# EAGLE library part ARDUINOR3 (library firefly)
This is a new object for the new Arduino R3 - with extra pins that you may want to use (such as IOref, and duplicated A4/A5
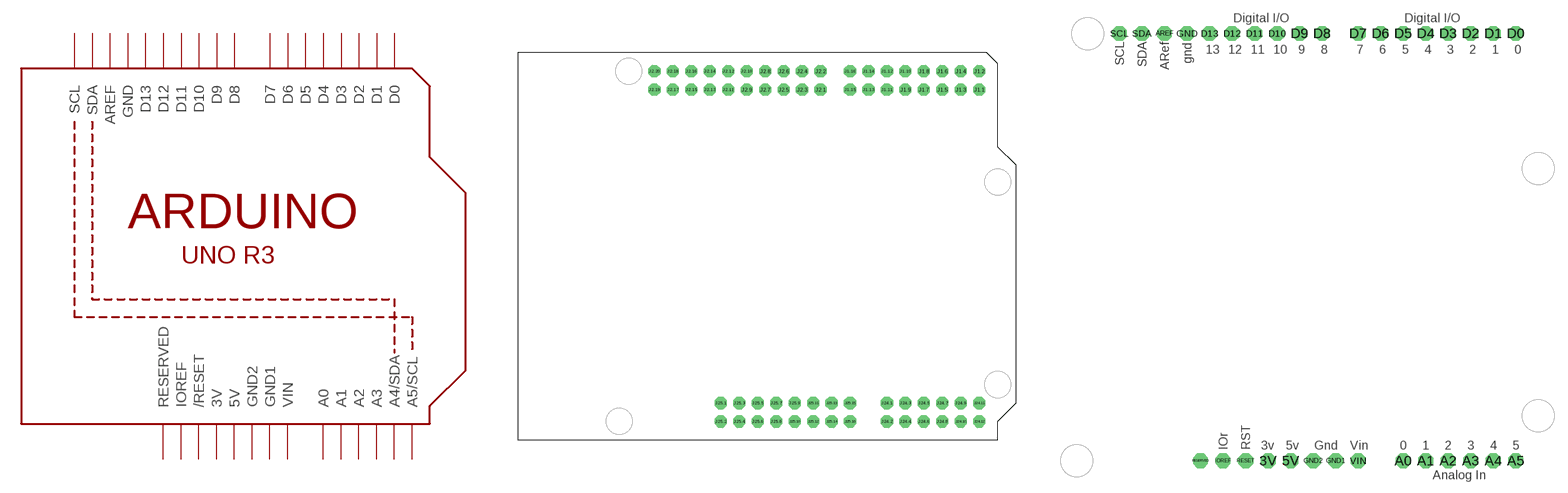
[diagram p28: symbol with the pads of ARDUINOR3; footprints ARDUINOR3, ARDUINOR3-BPLACE]

Designator prefix U

## ARDUINOR3-DIMENSION  [ARDUINOR3]
J1.2  D0
J1.4  D1
J1.6  D2
J1.8  D3
J1.10  D4
J1.12  D5
J1.14  D6
J1.16  D7
J2.2  D8
J2.4  D9
J2.6  D10
J2.8  D11
J2.10  D12
J2.12  D13
J2.14  GND  pwr
J2.16  AREF
J2.18  SDA
J2.20  SCL
J24.2  A0
J24.4  A1
J24.6  A2
J24.8  A3
J24.10  A4/SDA
J24.12  A5/SCL
J25.2  RESERVED  nc
J25.4  IOREF  out
J25.6  /RESET
J25.8  3V  pwr
J25.10  5V  pwr
J25.12  GND2  pwr
J25.14  GND1  pwr
J25.16  VIN  pwr

## ARDUINOR3-BPLACE  [ARDUINOR3-BPLACE]
3V  3V  pwr
5V  5V  pwr
A0  A0
A1  A1
A2  A2
A3  A3
A4  A4/SDA
A5  A5/SCL
AREF  AREF
D0  D0
D1  D1
D2  D2
D3  D3
D4  D4
D5  D5
D6  D6
D7  D7
D8  D8
D9  D9
D10  D10
D11  D11
D12  D12
D13  D13
GND  GND  pwr
GND1  GND1  pwr
GND2  GND2  pwr
IOREF  IOREF  out
RESERVED  RESERVED  nc
RESET  /RESET
SCL  SCL
SDA  SDA
VIN  VIN  pwr

## Footprint ARDUINOR3 (pad centres in mm)
The new Arduino R3 'classic' adds duplicate I2C pins and an IORef pin (and an unused pin
drill 1 pad 1.676 octagon: J1.1 63.5,48.26; J1.2 63.5,50.8; J1.3 60.96,48.26; J1.4 60.96,50.8; J1.5 58.42,48.26; J1.6 58.42,50.8; J1.7 55.88,48.26; J1.8 55.88,50.8; J1.9 53.34,48.26; J1.10 53.34,50.8; J1.11 50.8,48.26; J1.12 50.8,50.8; J1.13 48.26,48.26; J1.14 48.26,50.8; J1.15 45.72,48.26; J1.16 45.72,50.8; J2.1 41.656,48.26; J2.2 41.656,50.8; J2.3 39.116,48.26; J2.4 39.116,50.8; J2.5 36.576,48.26; J2.6 36.576,50.8; J2.7 34.036,48.26; J2.8 34.036,50.8; J2.9 31.496,48.26; J2.10 31.496,50.8; J2.11 28.956,48.26; J2.12 28.956,50.8; J2.13 26.416,48.26; J2.14 26.416,50.8; J2.15 23.876,48.26; J2.16 23.876,50.8; J2.17 21.336,48.26; J2.18 21.336,50.8; J2.19 18.796,48.26; J2.20 18.796,50.8; J24.1 50.8,5.08; J24.2 50.8,2.54; J24.3 53.34,5.08; J24.4 53.34,2.54; J24.5 55.88,5.08; J24.6 55.88,2.54; J24.7 58.42,5.08; J24.8 58.42,2.54; J24.9 60.96,5.08; J24.10 60.96,2.54; J24.11 63.5,5.08; J24.12 63.5,2.54; J25.1 27.94,5.08; J25.2 27.94,2.54; J25.3 30.48,5.08; J25.4 30.48,2.54; J25.5 33.02,5.08; J25.6 33.02,2.54; J25.7 35.56,5.08; J25.8 35.56,2.54; J25.9 38.1,5.08; J25.10 38.1,2.54; J25.11 40.64,5.08; J25.12 40.64,2.54; J25.13 43.18,5.08; J25.14 43.18,2.54; J25.15 45.72,5.08; J25.16 45.72,2.54

## Footprint ARDUINOR3-BPLACE (pad centres in mm)
drill 1 pad 1.676 octagon: 3V 35.56,2.54; 5V 38.1,2.54; A0 50.8,2.54; A1 53.34,2.54; A2 55.88,2.54; A3 58.42,2.54; A4 60.96,2.54; A5 63.5,2.54; AREF 23.876,50.8; D0 63.5,50.8; D1 60.96,50.8; D2 58.42,50.8; D3 55.88,50.8; D4 53.34,50.8; D5 50.8,50.8; D6 48.26,50.8; D7 45.72,50.8; D8 41.656,50.8; D9 39.116,50.8; D10 36.576,50.8; D11 34.036,50.8; D12 31.496,50.8; D13 28.956,50.8; GND 26.416,50.8; GND1 43.18,2.54; GND2 40.64,2.54; IOREF 30.48,2.54; RESERVED 27.94,2.54; RESET 33.02,2.54; SCL 18.796,50.8; SDA 21.336,50.8; VIN 45.72,2.54